# EAGLE library part F30BUS_A (library PINHEADER)
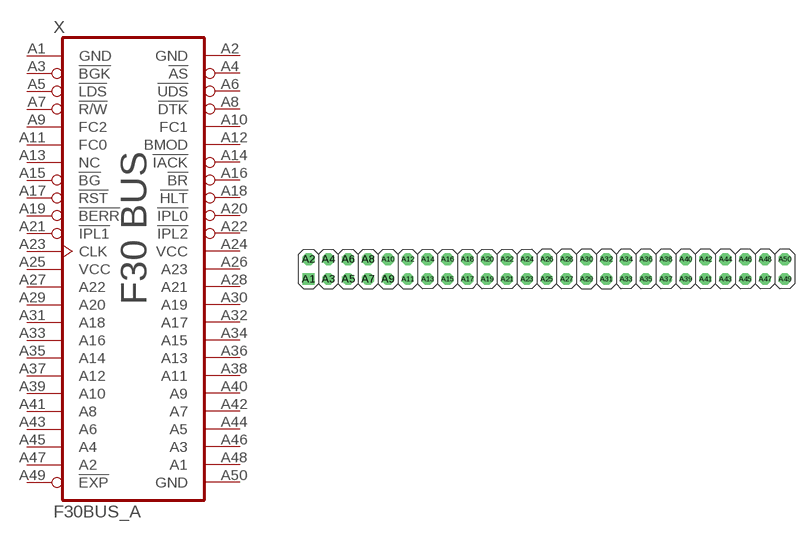
[diagram p6: symbol with the pads of F30BUS_2X25_A; footprint F30BUS_2X25_A]

Designator prefix X

## F30BUS_A  [F30BUS_2X25_A]
A1  GND  pas
A2  GND  pas
A3  !BGK  pas
A4  !AS  pas
A5  !LDS  pas
A6  !UDS  pas
A7  !R/W  pas
A8  !DTK  pas
A9  FC2  pas
A10  FC1  pas
A11  FC0  pas
A12  BMOD  pas
A13  NC  pas
A14  !IACK  pas
A15  !BG  pas
A16  !BR  pas
A17  !RST  pas
A18  !HLT  pas
A19  !BERR  pas
A20  !IPL0  pas
A21  !IPL1  pas
A22  !IPL2  pas
A23  CLK  pas
A24  VCC  pas
A25  VCC  pas
A26  A23  pas
A27  A22  pas
A28  A21  pas
A29  A20  pas
A30  A19  pas
A31  A18  pas
A32  A17  pas
A33  A16  pas
A34  A15  pas
A35  A14  pas
A36  A13  pas
A37  A12  pas
A38  A11  pas
A39  A10  pas
A40  A9  pas
A41  A8  pas
A42  A7  pas
A43  A6  pas
A44  A5  pas
A45  A4  pas
A46  A3  pas
A47  A2  pas
A48  A1  pas
A49  !EXP  pas
A50  GND  pas

## Footprint F30BUS_2X25_A (pad centres in mm)
PIN HEADER - 2.54
drill 1.016 square: A1 -30.48,-1.27
drill 1.016 octagon: A2 -30.48,1.27; A3 -27.94,-1.27; A4 -27.94,1.27; A5 -25.4,-1.27; A6 -25.4,1.27; A7 -22.86,-1.27; A8 -22.86,1.27; A9 -20.32,-1.27; A10 -20.32,1.27; A11 -17.78,-1.27; A12 -17.78,1.27; A13 -15.24,-1.27; A14 -15.24,1.27; A15 -12.7,-1.27; A16 -12.7,1.27; A17 -10.16,-1.27; A18 -10.16,1.27; A19 -7.62,-1.27; A20 -7.62,1.27; A21 -5.08,-1.27; A22 -5.08,1.27; A23 -2.54,-1.27; A24 -2.54,1.27; A25 0,-1.27; A26 0,1.27; A27 2.54,-1.27; A28 2.54,1.27; A29 5.08,-1.27; A30 5.08,1.27; A31 7.62,-1.27; A32 7.62,1.27; A33 10.16,-1.27; A34 10.16,1.27; A35 12.7,-1.27; A36 12.7,1.27; A37 15.24,-1.27; A38 15.24,1.27; A39 17.78,-1.27; A40 17.78,1.27; A41 20.32,-1.27; A42 20.32,1.27; A43 22.86,-1.27; A44 22.86,1.27; A45 25.4,-1.27; A46 25.4,1.27; A47 27.94,-1.27; A48 27.94,1.27; A49 30.48,-1.27; A50 30.48,1.27